# EAGLE library part AD5625RBRUZ (library work)
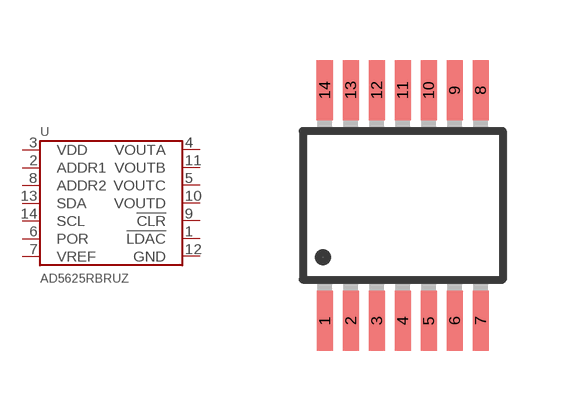
[diagram p34: symbol with the pads of SSOP14-4.4MM; footprint SSOP14-4.4MM]

Designator prefix U

## AD5625RBRUZ  [SSOP14-4.4MM]
1  !LDAC
2  ADDR1
3  VDD
4  VOUTA
5  VOUTC
6  POR
7  VREF
8  ADDR2
9  !CLR
10  VOUTD
11  VOUTB
12  GND
13  SDA
14  SCL

## Footprint SSOP14-4.4MM (pad centres in mm)
smd 0.4 x 1.5: 1 -1.949,-2.884; 2 -1.299,-2.884; 3 -0.649,-2.884; 4 0.001,-2.884; 5 0.651,-2.884; 6 1.301,-2.884; 7 1.951,-2.884; 8 1.949,2.884; 9 1.299,2.884; 10 0.649,2.884; 11 -0.001,2.884; 12 -0.651,2.884; 13 -1.301,2.884; 14 -1.951,2.884